# EAGLE library part TM_POS_HV (library matsusada)
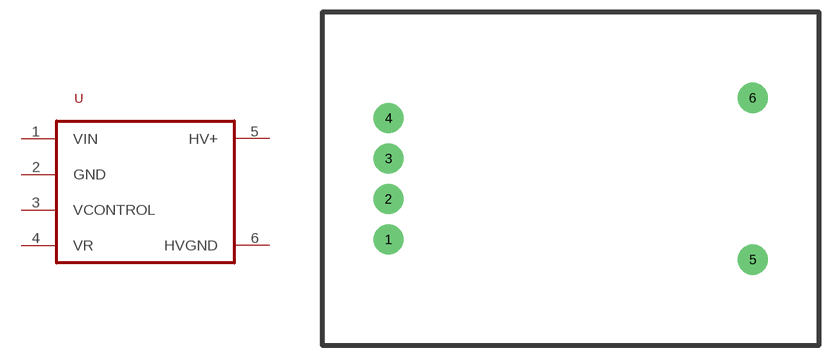
[diagram p0: symbol with the pads of TM_SERIES; footprint TM_SERIES]

Designator prefix -

## TM_POS_HV  [TM_SERIES]
1  VIN
2  GND
3  VCONTROL
4  VR
5  HV+
6  HVGND

## Footprint TM_SERIES (pad centres in mm)
drill 1.1 pad 3.81 round: 1 -22.86,-7.62; 2 -22.86,-2.54; 3 -22.86,2.54; 4 -22.86,7.62; 5 22.86,-10.16; 6 22.86,10.16